# EAGLE library part BQ27421YZFT-G1A (library BQ27421YZFT-G1A)
System-Side(tm) Fuel Gauge With Integrated Sense Resistor | Battery Gas Gauge Source: Datasheet <http://www.ti.com/lit/ds/symlink/bq27421-g1.pdf>
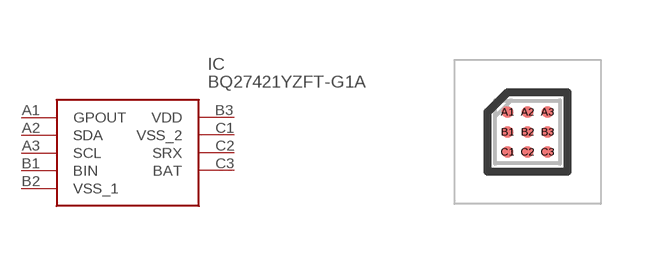
[diagram p0: symbol with the pads of BGA9C50P3X3_162X158X62; footprint BGA9C50P3X3_162X158X62]

Designator prefix IC

## BQ27421YZFT-G1A (Arrow_Part_Number: BQ27421YZFT-G1A; Arrow_Price-Stock: https://www.arrow.com/en/products/bq27421yzft-g1a/texas-instruments?region=nac; Description: System-Side(tm) Fuel Gauge With Integrated Sense Resistor | Battery Gas Gauge; Height: 0.625mm; Manufacturer_Name: Texas Instruments; Manufacturer_Part_Number: BQ27421YZFT-G1A; Mouser_Part_Number: 595-BQ27421YZFT-G1A; Mouser_Price-Stock: https://www.mouser.co.uk/ProductDetail/Texas-Instruments/BQ27421YZFT-G1A?qs=%252BrH4t%252BeVZ2Mb4Ofcz0kOjQ%3D%3D)  [BGA9C50P3X3_162X158X62]
A1  GPOUT
A2  SDA
A3  SCL
B1  BIN
B2  VSS_1
B3  VDD
C1  VSS_2
C2  SRX
C3  BAT

## Footprint BGA9C50P3X3_162X158X62 (pad centres in mm)
YZF0009-C01
smd 0.29 x 0.29: A1 -0.5,0.5; A2 0,0.5; A3 0.5,0.5; B1 -0.5,0; B2 0,0; B3 0.5,0; C1 -0.5,-0.5; C2 0,-0.5; C3 0.5,-0.5